# EAGLE library part N25Q128A13E (library df4iah_spi-nor-flash)
Micron Serial NOR Flash Memory 3V, Multiple I/O, 4KB Sector Erase N25Q128A Source: http://www.micron.com/~/media/documents/products/data-sheet/nor-flash/serial-nor/n25q/n25q_128mb_3v_65nm.pdf Data entry: DF4IAH
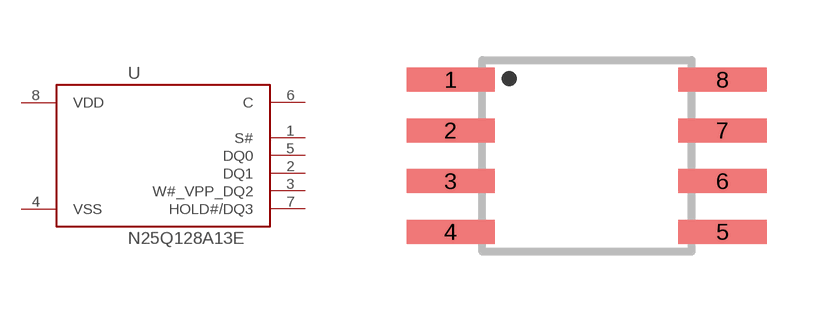
[diagram p0: symbol with the pads of SOP2-8; footprint SOP2-8]

Designator prefix U

## N25Q128A13ESE40F (MPN: N25Q128A13ESE40F; OC_AVNET: N25Q128A13ESE40F/BKN; OC_DIGIKEY: 557-1562-ND; OC_FARNELL: 2253682; OC_NEWARK: 53W9418; PACKAGE: SOP2-8; SUPPLIER: Micron)  [SOP2-8]
1  S#  in
2  DQ1
3  W#_VPP_DQ2
4  VSS  pwr
5  DQ0
6  C  in
7  HOLD#/DQ3
8  VDD  pwr

## Footprint SOP2-8 (pad centres in mm)
8-Lead Small Outline IC (SOP2-8) SOP2-8 (208 mils body width) Source: http://www.micron.com/~/media/documents/products/data-sheet/nor-flash/serial-nor/n25q/n25q_128mb_3v_65nm.pdf @ page 80.
smd 2.2 x 0.6: 1 -3.5,1.874; 2 -3.5,0.604; 3 -3.5,-0.666; 4 -3.5,-1.936; 5 3.3,-1.936; 6 3.3,-0.666; 7 3.3,0.604; 8 3.3,1.874